# EAGLE library part 4392 (library 4392)
Adafruit Accessories JST PH 4-pin Horizontal Connector (10-pack) - STEMMA Source: Datasheet <https://www.mouser.dk/datasheet/2/737/4389_C13924-001_CCP-W20-03-BK-SMT-R-A-1708610.pdf>
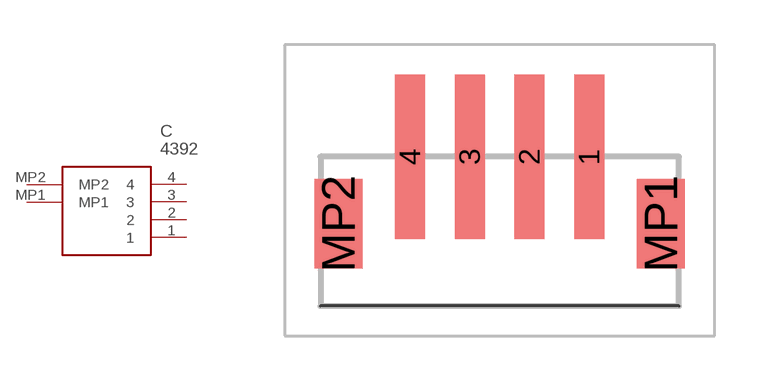
[diagram p0: symbol with the pads of 4392; footprint 4392]

Designator prefix C

## 4392 (Description: Adafruit Accessories JST PH 4-pin Horizontal Connector (10-pack) - STEMMA; Height: 6.85mm; Manufacturer_Name: Adafruit; Manufacturer_Part_Number: 4392; Mouser_Part_Number: 485-4392; Mouser_Price-Stock: https://www.mouser.co.uk/ProductDetail/Adafruit/4392?qs=xZ%2FP%252Ba9zWqbG2TKb%252Bnxciw%3D%3D)  [4392]
1  1
2  2
3  3
4  4
MP1  MP1
MP2  MP2

## Footprint 4392 (pad centres in mm)
4392-3
smd 1 x 5.5: 1 3,3.5; 2 1,3.5; 3 -1,3.5; 4 -3,3.5
smd 1.6 x 3: MP1 5.4,1.25; MP2 -5.4,1.25